# Altium schematic symbol library DIODOS.SchLib: 41 symbols (part 2 of 3)
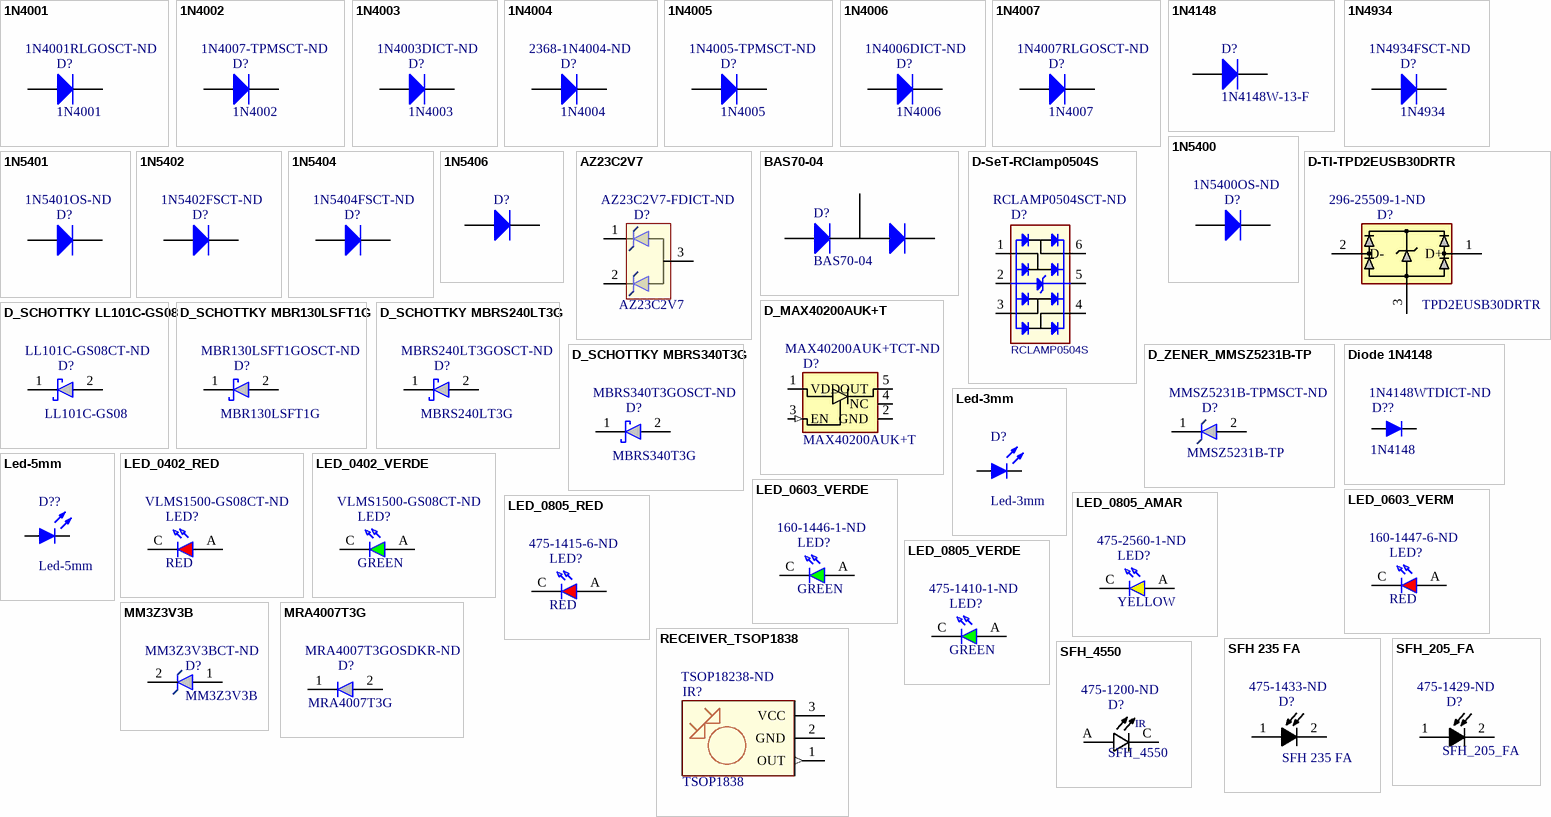
[diagram p2: symbols 1N4001 to SFH_4550]

## D_SCHOTTKY LL101C-GS08
designator D?, comment LL101C-GS08  Supplier Part Number 1: LL101C-GS08CT-ND
VISHAY   LL101C-GS08   DIODE, SCHOTTKY, 40V 0.03A, SOD80; Fabricante: DIODES INC; Average Rectified Current: 30mA; Peak Reverse Current: 200nA; Reverse Recovery Time: 1ns; Max Forward Surge Current (Ifsm): 2A; Power Dissipation: 400mW; Current Rating: 30A; Element Configuration: Single; Forward Voltage: 900mV; Footprint: SOD 80 (MINIMELF); MPN: LL101C-GS08; Value: LL101C-GS08; ComponentLink1Description: LOJA; ComponentLink1URL: https://www.digikey.com/product-detail/en/vishay-semiconductor-diodes-division/LL101C-GS08/LL101C-GS08CT-ND/3104465; ComponentLink2Description: DATASHEET; ComponentLink2URL: http://www.vishay.com/docs/85626/ll101a.pdf; Supplier 1: Digi-Key; Manufacturer: Vishay; Manufacturer Part Number: LL101C-GS08; RoHS: Yes; Category: Rectifier Diodes; Stock 1: 24777; Pricing 1: 1=0,37000, 10=0,30600, 25=0,25640, 100=0,12540, 250=0,12340, 500=0,10460, 1000=0,07268 (USD); Mount: Surface Mount; Number of Pins: 2; Min Operating Temperature: -65°C; Max Operating Temperature: 125°C; Max Repetitive Reverse Voltage (Vrrm): 40V; Peak Non-Repetitive Surge Current: 2A; Packaging: Tape and Reel; Package Quantity: 2500; Forward Current: 30mA; Max Reverse Voltage (DC): 40V; Current: 2A; Voltage: 40V; Max Reverse Leakage Current: 200nA; Max Surge Current: 2A; Recovery Time: 1ns; Length: 3.7mm; Height: 1.6mm; Width: 1.6mm; Radiation Hardening: No; Lead Free: Lead Free; REACH SVHC: Unknown; ComponentLink3URL: https://datasheet.ciiva.com/23642/1734837-23642459.pdf?src-supplier=Newark; ComponentLink3Description: https://datasheet.ciiva.com/23642/1734837-23642459.pdf?src-supplier=Newark; ComponentLink4URL: https://datasheet.ciiva.com/5726/1734641-5726561.pdf?src-supplier=Farnell; ComponentLink4Description: https://datasheet.ciiva.com/5726/1734641-5726561.pdf?src-supplier=Farnell; ComponentLink5URL: https://datasheet.ciiva.com/4246/ll101a-4246222.pdf?src-supplier=Arrow; ComponentLink5Description: https://datasheet.ciiva.com/4246/ll101a-4246222.pdf?src-supplier=Arrow; ComponentLink6URL: https://datasheet.ciiva.com/16386/ll101a-16386169.pdf?src-supplier=Future+Electronics; ComponentLink6Description: https://datasheet.ciiva.com/16386/ll101a-16386169.pdf?src-supplier=Future+Electronics; ComponentLink7URL: https://datasheet.ciiva.com/13946/ll101a-13946748.pdf?src-supplier=Digi-Key; ComponentLink7Description: https://datasheet.ciiva.com/13946/ll101a-13946748.pdf?src-supplier=Digi-Key; ComponentLink8URL: https://datasheet.ciiva.com/13946/ll101a-13946749.pdf?src-supplier=Digi-Key; ComponentLink8Description: https://datasheet.ciiva.com/13946/ll101a-13946749.pdf?src-supplier=Digi-Key; ComponentLink9URL: https://datasheet.ciiva.com/25931/ll101a-25931901.pdf?src-supplier=Avnet+Europe; ComponentLink9Description: https://datasheet.ciiva.com/25931/ll101a-25931901.pdf?src-supplier=Avnet+Europe; ComponentLink10URL: https://datasheet.ciiva.com/8288/ll101a-8288574.pdf?src-supplier=Avnet; ComponentLink10Description: https://datasheet.ciiva.com/8288/ll101a-8288574.pdf?src-supplier=Avnet; ComponentLink11URL: https://datasheet.ciiva.com/13946/ll101a-13946750.pdf?src-supplier=Digi-Key; ComponentLink11Description: https://datasheet.ciiva.com/13946/ll101a-13946750.pdf?src-supplier=Digi-Key
footprint SOD80 (MINIMELF) (MELF Diode, 2-Leads, Body 3,50x1,50mm, IPC Medium Density)
pins: 1 C, 2 K2

## D_SCHOTTKY MBR130LSFT1G
designator D?, comment MBR130LSFT1G  Supplier Part Number 1: MBR130LSFT1GOSCT-ND
MBR130 Series 1 A 30 V Surface Mount Schottky Power Rectifier - SOD-123FL; Manufacturer: ON Semiconductor; Fabricante: ON SEMI; Forward Current: 1A; Peak Reverse Current: 1mA; Max Surge Current: 40A; Forward Voltage: 380mV; Max Repetitive Reverse Voltage (Vrrm): 30V; Element Configuration: Single; Polarity: Standard; Footprint: SOD-123FL; MPN: MBR130LSFT1G; Value: MBR130LSFT1G; ComponentLink1Description: LOJA; ComponentLink1URL: https://www.digikey.com/product-detail/en/on-semiconductor/MBR130LSFT1G/MBR130LSFT1GOSCT-ND/1477159; ComponentLink2Description: DATASHEET; ComponentLink2URL: https://www.onsemi.com/pub/Collateral/MBR130LSFT1-D.PDF; Supplier 1: Digi-Key; Manufacturer Part Number: MBR130LSFT1G; RoHS: Yes; Category: Schottky Diodes; Stock 1: 111209; Pricing 1: 1=0,44000, 10=0,32900, 25=0,28760, 100=0,15620, 250=0,15536, 500=0,12742, 1000=0,09453 (USD); Number of Pins: 2; Contact Plating: Tin,Matte; Min Operating Temperature: -55°C; Max Operating Temperature: 125°C; Package Quantity: 1; Packaging: Tape and Reel; Average Rectified Current: 1A; Max Reverse Leakage Current: 1mA; Peak Non-Repetitive Surge Current: 40A; Max Forward Surge Current (Ifsm): 40A; Voltage Rating (DC): 30V; Current Rating: 1A; Output Current: 1A; Max Reverse Voltage (DC): 30V; Length: 2.9mm; Height: 0.9mm; Width: 1.8mm; Radiation Hardening: No; REACH SVHC: No SVHC; Lead Free: Lead Free; Halogen Free: Halogen Free; ComponentLink3URL: https://datasheet.ciiva.com/915/mbr130lsft1-d-915716.pdf?src-supplier=Digi-Key; ComponentLink3Description: https://datasheet.ciiva.com/915/mbr130lsft1-d-915716.pdf?src-supplier=Digi-Key; ComponentLink4URL: https://datasheet.ciiva.com/22830/0900766b811a6555-22830535.pdf?src-supplier=RSComponents; ComponentLink4Description: https://datasheet.ciiva.com/22830/0900766b811a6555-22830535.pdf?src-supplier=RSComponents; ComponentLink5URL: https://datasheet.ciiva.com/915/mbr130lsft1-d-915718.pdf?src-supplier=Digi-Key; ComponentLink5Description: https://datasheet.ciiva.com/915/mbr130lsft1-d-915718.pdf?src-supplier=Digi-Key; ComponentLink6URL: https://datasheet.ciiva.com/16396/mbr130lsft1-d-16396042.pdf?src-supplier=Future+Electronics; ComponentLink6Description: https://datasheet.ciiva.com/16396/mbr130lsft1-d-16396042.pdf?src-supplier=Future+Electronics
footprint SOD-123FL (SODFL, 2-Leads, Body 1,65x3,60mm, IPC Medium Density)
pins: 1 C, 2 K2

## D_SCHOTTKY MBRS240LT3G
designator D?, comment MBRS240LT3G  Supplier Part Number 1: MBRS240LT3GOSCT-ND
Diode Schottky 40V 2A 2-Pin SMB T/R; Manufacturer: ON Semiconductor; Fabricante: ON SEMI; Peak Reverse Current: 2mA; Max Forward Surge Current (Ifsm): 25A; Element Configuration: Single; Forward Voltage: 430mV; Polarity: Standard; Footprint: DO-214AA(SMB); MPN: MBRS240LT3G; Value: MBRS240LT3G; ComponentLink1Description: LOJA; ComponentLink1URL: https://www.digikey.com/product-detail/en/on-semiconductor/MBRS240LT3G/MBRS240LT3GOSCT-ND/918005; ComponentLink2Description: DATASHEET; ComponentLink2URL: https://www.onsemi.com/pub/Collateral/MBRS240LT3-D.PDF; Supplier 1: Digi-Key; Manufacturer Part Number: MBRS240LT3G; RoHS: Yes; Category: Schottky Diodes; Stock 1: 24703; Pricing 1: 1=0,40000, 10=0,32400, 25=0,29640, 100=0,18600, 250=0,18396, 500=0,17226, 1000=0,11713 (USD); Case/Package: SMB; Number of Pins: 2; Contact Plating: Tin,Matte; Min Operating Temperature: -55°C; Max Operating Temperature: 125°C; Forward Current: 2A; Package Quantity: 1; Packaging: Tape and Reel; Average Rectified Current: 2A; Max Repetitive Reverse Voltage (Vrrm): 40V; Peak Non-Repetitive Surge Current: 25A; Max Reverse Voltage (DC): 40V; Max Surge Current: 25A; Max Reverse Leakage Current: 2mA; Voltage Rating (DC): 40V; Current Rating: 2A; Output Current: 2A; Length: 4.32mm; Height: 2.13mm; Width: 3.56mm; Radiation Hardening: No; Lead Free: Lead Free; Halogen Free: Halogen Free; REACH SVHC: No SVHC; ComponentLink3URL: https://datasheet.ciiva.com/34301/866138-34301617.pdf?src-supplier=Jameco; ComponentLink3Description: https://datasheet.ciiva.com/34301/866138-34301617.pdf?src-supplier=Jameco; ComponentLink4URL: https://datasheet.ciiva.com/25950/mbrs240lt3-d-25950261.pdf?src-supplier=Avnet+Europe; ComponentLink4Description: https://datasheet.ciiva.com/25950/mbrs240lt3-d-25950261.pdf?src-supplier=Avnet+Europe; ComponentLink5URL: https://datasheet.ciiva.com/4714/mbrs240lt3-d-90409-4714391.pdf?src-supplier=Mouser; ComponentLink5Description: https://datasheet.ciiva.com/4714/mbrs240lt3-d-90409-4714391.pdf?src-supplier=Mouser; ComponentLink6URL: https://datasheet.ciiva.com/915/mbrs240lt3-d-915862.pdf?src-supplier=Digi-Key; ComponentLink6Description: https://datasheet.ciiva.com/915/mbrs240lt3-d-915862.pdf?src-supplier=Digi-Key; ComponentLink7URL: https://datasheet.ciiva.com/915/mbrs240lt3-d-915861.pdf?src-supplier=Digi-Key; ComponentLink7Description: https://datasheet.ciiva.com/915/mbrs240lt3-d-915861.pdf?src-supplier=Digi-Key; ComponentLink8URL: https://datasheet.ciiva.com/915/mbrs240lt3-d-915863.pdf?src-supplier=Digi-Key; ComponentLink8Description: https://datasheet.ciiva.com/915/mbrs240lt3-d-915863.pdf?src-supplier=Digi-Key; ComponentLink9URL: https://datasheet.ciiva.com/14558/70099506-14558439.pdf?src-supplier=Allied+Electronics; ComponentLink9Description: https://datasheet.ciiva.com/14558/70099506-14558439.pdf?src-supplier=Allied+Electronics; ComponentLink10URL: https://datasheet.ciiva.com/16202/mbrs240lt3-d-16202059.pdf?src-supplier=Future+Electronics; ComponentLink10Description: https://datasheet.ciiva.com/16202/mbrs240lt3-d-16202059.pdf?src-supplier=Future+Electronics
footprint SMB(DO-214AA) (CASE 403A-03)
pins: 1 C, 2 K2

## D_SCHOTTKY MBRS340T3G
designator D?, comment MBRS340T3G  Supplier Part Number 1: MBRS340T3GOSCT-ND
DIODE SCHOTTKY 40V 4A SMC; Manufacturer: ON Semiconductor; Fabricante: ON SEMI; Forward Voltage: 500mV; Peak Reverse Current: 2mA; Max Surge Current: 80A; Element Configuration: Single; Polarity: Standard; Current Rating: 3A; Footprint: DO-214AB(SMC); MPN: MBRS340T3G; Value: MBRS340T3G; ComponentLink1Description: LOJA; ComponentLink1URL: https://www.digikey.com/product-detail/en/on-semiconductor/MBRS340T3G/MBRS340T3GOSCT-ND/918009; ComponentLink2Description: DATASHEET; ComponentLink2URL: https://www.onsemi.com/pub/Collateral/MBRS340T3-D.PDF; Supplier 1: Digi-Key; Manufacturer Part Number: MBRS340T3G; RoHS: Yes; Category: Schottky Diodes; Stock 1: 118753; Pricing 1: 1=0,47000, 10=0,38300, 25=0,35000, 100=0,21980, 250=0,21732, 500=0,20350, 1000=0,13838 (USD); Case/Package: SMC; Number of Pins: 2; Contact Plating: Tin,Matte; Min Operating Temperature: -65°C; Max Operating Temperature: 150°C; Package Quantity: 1; Forward Current: 4A; Packaging: Tape and Reel; Average Rectified Current: 4A; Max Reverse Leakage Current: 2mA; Max Forward Surge Current (Ifsm): 80A; Max Repetitive Reverse Voltage (Vrrm): 40V; Peak Non-Repetitive Surge Current: 80A; Termination: SMD/SMT; Voltage Rating (DC): 40V; Output Current: 3A; Max Reverse Voltage (DC): 40V; Length: 0.279inch; Height: 0.095inch; Width: 0.24inch; Radiation Hardening: No; REACH SVHC: No SVHC; Lead Free: Lead Free; Halogen Free: Halogen Free; ComponentLink3URL: https://datasheet.ciiva.com/915/mbrs340t3-d-915987.pdf?src-supplier=Digi-Key; ComponentLink3Description: https://datasheet.ciiva.com/915/mbrs340t3-d-915987.pdf?src-supplier=Digi-Key; ComponentLink4URL: https://datasheet.ciiva.com/22659/1708282-22659074.pdf?src-supplier=Element14; ComponentLink4Description: https://datasheet.ciiva.com/22659/1708282-22659074.pdf?src-supplier=Element14; ComponentLink5URL: https://datasheet.ciiva.com/915/mbrs340t3-d-915988.pdf?src-supplier=Digi-Key; ComponentLink5Description: https://datasheet.ciiva.com/915/mbrs340t3-d-915988.pdf?src-supplier=Digi-Key; ComponentLink6URL: https://datasheet.ciiva.com/915/mbrs340t3-d-915989.pdf?src-supplier=Digi-Key; ComponentLink6Description: https://datasheet.ciiva.com/915/mbrs340t3-d-915989.pdf?src-supplier=Digi-Key; ComponentLink7URL: https://datasheet.ciiva.com/5763/mbrs340t3-d-5763030.pdf?src-supplier=Farnell; ComponentLink7Description: https://datasheet.ciiva.com/5763/mbrs340t3-d-5763030.pdf?src-supplier=Farnell; ComponentLink8URL: https://datasheet.ciiva.com/8299/mbrs340t3-d-8299862.pdf?src-supplier=Avnet; ComponentLink8Description: https://datasheet.ciiva.com/8299/mbrs340t3-d-8299862.pdf?src-supplier=Avnet; ComponentLink9URL: https://datasheet.ciiva.com/8294/mbrs340t3-d-8294983.pdf?src-supplier=Avnet; ComponentLink9Description: https://datasheet.ciiva.com/8294/mbrs340t3-d-8294983.pdf?src-supplier=Avnet; ComponentLink10URL: https://datasheet.ciiva.com/16475/mbrs340t3-d-16475159.pdf?src-supplier=Avnet+Asia; ComponentLink10Description: https://datasheet.ciiva.com/16475/mbrs340t3-d-16475159.pdf?src-supplier=Avnet+Asia; ComponentLink11URL: https://datasheet.ciiva.com/7962/mbrs340t3-d-7962825.pdf?src-supplier=Element14; ComponentLink11Description: https://datasheet.ciiva.com/7962/mbrs340t3-d-7962825.pdf?src-supplier=Element14; ComponentLink12URL: https://datasheet.ciiva.com/7962/mbrs340t3-d-7962826.pdf?src-supplier=Element14; ComponentLink12Description: https://datasheet.ciiva.com/7962/mbrs340t3-d-7962826.pdf?src-supplier=Element14; ComponentLink13URL: https://datasheet.ciiva.com/25950/mbrs340t3-d-25950010.pdf?src-supplier=Avnet+Europe; ComponentLink13Description: https://datasheet.ciiva.com/25950/mbrs340t3-d-25950010.pdf?src-supplier=Avnet+Europe; ComponentLink14URL: https://datasheet.ciiva.com/7962/mbrs340t3-d-7962827.pdf?src-supplier=Element14; ComponentLink14Description: https://datasheet.ciiva.com/7962/mbrs340t3-d-7962827.pdf?src-supplier=Element14
footprint DO-214AB (CASE 403AC - SMC)
pins: 1 C, 2 A

## D_ZENER_MMSZ5231B-TP
designator D?, comment MMSZ5231B-TP  Supplier Part Number 1: MMSZ5231B-TPMSCT-ND
DIODE ZENER 5.1V 500MW SOD123; Manufacturer: MCC; Fabricante: MICRO COM; Element Configuration: Single; Tolerance: 5%; Forward Voltage: 900mV; Impedance: 17R; Max Reverse Leakage Current: 5uA; Test Current: 20mA; Footprint: SOD123; MPN: MMSZ5231B-TP; Value: MMSZ5231B-TP; ComponentLink1Description: LOJA; ComponentLink1URL: https://www.digikey.com/product-detail/en/micro-commercial-co/MMSZ5231B-TP/MMSZ5231B-TPMSCT-ND/1793361; ComponentLink2Description: DATASHEET; ComponentLink2URL: https://www.mccsemi.com/pdf/Products/MMSZ5221-MMSZ5267(SOD123)-J.pdf; Supplier 1: Digi-Key; Manufacturer Part Number: MMSZ5231B-TP; RoHS: Yes; Category: Zener Diodes; Stock 1: 119489; Pricing 1: 1=0,20000, 10=0,16100, 25=0,13520, 100=0,06600, 250=0,06496, 500=0,05506, 1000=0,03825 (USD); Mount: Surface Mount; Number of Pins: 2; Min Operating Temperature: -55°C; Max Operating Temperature: 150°C; Package Quantity: 1; Packaging: Tape and Reel; Zener Voltage: 5.1V; Max Power Dissipation: 500mW; Power Dissipation: 500mW; Voltage Tolerance: 5%; Working Voltage: 5.1V; Peak Reverse Current: 5uA; REACH SVHC: Unknown; Lead Free: Lead Free; ComponentLink3URL: https://datasheet.ciiva.com/890/mmsz5221-mmsz5259sod123-890304.pdf?src-supplier=Digi-Key; ComponentLink3Description: https://datasheet.ciiva.com/890/mmsz5221-mmsz5259sod123-890304.pdf?src-supplier=Digi-Key; ComponentLink4URL: https://datasheet.ciiva.com/23709/1684853-23709285.pdf?src-supplier=Newark; ComponentLink4Description: https://datasheet.ciiva.com/23709/1684853-23709285.pdf?src-supplier=Newark; ComponentLink5URL: https://datasheet.ciiva.com/890/mmsz5221-mmsz5259sod123-890305.pdf?src-supplier=Digi-Key; ComponentLink5Description: https://datasheet.ciiva.com/890/mmsz5221-mmsz5259sod123-890305.pdf?src-supplier=Digi-Key; ComponentLink6URL: https://datasheet.ciiva.com/17380/mmsz5221-mmsz5259sod123-17380597.pdf?src-supplier=Future+Electronics; ComponentLink6Description: https://datasheet.ciiva.com/17380/mmsz5221-mmsz5259sod123-17380597.pdf?src-supplier=Future+Electronics; ComponentLink7URL: https://datasheet.ciiva.com/890/mmsz5221-mmsz5259sod123-890303.pdf?src-supplier=Digi-Key; ComponentLink7Description: https://datasheet.ciiva.com/890/mmsz5221-mmsz5259sod123-890303.pdf?src-supplier=Digi-Key
footprint SOD123 (SOD123, Surface Mount)
pins: 1 C, 2 A

## Diode 1N4148
designator D??, comment 1N4148  Supplier Part Number 1: 1N4148WTDICT-ND
Diode Switching 100V 0.25A 2-Pin SOD-523 T/R; MPN: 1N4148W-TP; Manufacturer: Diodes; Manufacturer Part Number: 1N4148WT-7; Fabricante: Micro Commercial Co; Reverse Recovery Time: 4ns; Forward Voltage: 1.25V; Element Configuration: Single; Forward Current: 250mA; Peak Non-Repetitive Surge Current: 2A; Average Rectified Current: 125mA; Max Reverse Voltage (DC): 80V; Power Dissipation: 150mW; Peak Reverse Current: 1uA; Polarity: Standard; Capacitance: 2pF; Footprint: SOD-123; value: 1N4148; ComponentLink1Description: Datasheet; ComponentLink1URL: https://www.mccsemi.com/pdf/Products/1N4148W(SOD123).pdf; Supplier 1: Digi-Key; RoHS: Yes; Category: Rectifier Diodes; Stock 1: 918216; Pricing 1: 1=0,20000, 10=0,16300, 25=0,13640, 100=0,06670, 250=0,06560, 500=0,05560, 1000=0,03863 (USD); Mount: Surface Mount; Number of Pins: 2; Weight: 3.5E-05oz; Contact Plating: Tin,Matte; Min Operating Temperature: -65°C; Max Operating Temperature: 150°C; Packaging: Tape and Reel; Max Repetitive Reverse Voltage (Vrrm): 100V; Package Quantity: 3000; Current Rating: 125mA; Recovery Time: 4ns; Max Forward Surge Current (Ifsm): 2A; Max Surge Current: 2A; Voltage Rating (DC): 80V; Output Current: 125mA; Power Rating: 150mW; Length: 0.9mm; Height: 0.65mm; Width: 1.3mm; Radiation Hardening: No; Lead Free: Lead Free; REACH SVHC: No SVHC; ComponentLink2URL: https://datasheet.ciiva.com/1242/ds30396-1242291.pdf?src-supplier=Newark; ComponentLink2Description: https://datasheet.ciiva.com/1242/ds30396-1242291.pdf?src-supplier=Newark; ComponentLink3URL: https://datasheet.ciiva.com/15219/getdatasheetpartid-131097-15219551.pdf?src-supplier=Verical; ComponentLink3Description: https://datasheet.ciiva.com/15219/getdatasheetpartid-131097-15219551.pdf?src-supplier=Verical; ComponentLink4URL: https://datasheet.ciiva.com/8303/ds30396-8303206.pdf?src-supplier=Avnet; ComponentLink4Description: https://datasheet.ciiva.com/8303/ds30396-8303206.pdf?src-supplier=Avnet; ComponentLink5URL: https://datasheet.ciiva.com/17074/0900766b80e30c5c-17074475.pdf?src-supplier=Allied+Electronics; ComponentLink5Description: https://datasheet.ciiva.com/17074/0900766b80e30c5c-17074475.pdf?src-supplier=Allied+Electronics; ComponentLink6URL: https://datasheet.ciiva.com/912/ds30396-912140.pdf?src-supplier=Digi-Key; ComponentLink6Description: https://datasheet.ciiva.com/912/ds30396-912140.pdf?src-supplier=Digi-Key; ComponentLink7URL: https://datasheet.ciiva.com/1179/ds30396-1179357.pdf?src-supplier=Element14; ComponentLink7Description: https://datasheet.ciiva.com/1179/ds30396-1179357.pdf?src-supplier=Element14; ComponentLink8URL: https://datasheet.ciiva.com/912/ds30396-912139.pdf?src-supplier=Digi-Key; ComponentLink8Description: https://datasheet.ciiva.com/912/ds30396-912139.pdf?src-supplier=Digi-Key
footprint SOD-123FL (SODFL, 2-Leads, Body 1,65x3,60mm, IPC Medium Density)
footprint SOD80 (MINIMELF) (MELF Diode, 2-Leads, Body 3,50x1,50mm, IPC Medium Density)
pins: 1 K, 2 A

## Led-3mm
designator D?
Led 3mm,
footprint LED_3mm_GREEN_RA
footprint LED_3mm_ORANGE_RA
footprint LED_3mm_RED_RA
footprint LED_3mm_YELLOW_RA
footprint LED_3mm_RED_RA - 2
pins: 1 A, 2 K

## Led-5mm
designator D??
Led 5mm,
footprint LED-35mm (Typical RED GaAs LED; 2 Leads)
footprint LED_R/A_GREEN
footprint LED_R/A_orange
footprint LED_R/A_RED
footprint LED_R/A_YELLOW
pins: 1 A, 2 K

## LED_0402_RED
designator LED?, comment RED  Supplier Part Number 1: VLMS1500-GS08CT-ND
LED Uni-Color Red 639nm 2-Pin Chip 0402(1006Metric) T/R; MPN: 598-8110-107F; Manufacturer: Vishay; Manufacturer Part Number: VLMS1500-GS08; Fabricante: Dialight; Number of LEDs: 1; Viewing Angle: 130°; Forward Current: 30mA; Forward Voltage: 2V; Luminous Intensity: 54mcd; Power Rating: 75mW; Dominant Wavelength: 631nm; Test Current: 20mA; Lens Style: Rectangular,Square; Footprint: 0805; Value: RED; Supplier 1: Digi-Key; RoHS: Yes; Category: LEDs; Stock 1: 130532; Pricing 1: 1=0,48000, 10=0,34600, 100=0,15360, 500=0,10752, 1000=0,08832 (USD); Mount: Surface Mount; Case/Package: 0402; Number of Pins: 2; Color: Red; Case Code (Imperial): 0402; Case Code (Metric): 1005; Min Operating Temperature: -30°C; Max Operating Temperature: 85°C; Package Quantity: 1; Packaging: Tape and Reel; Illumination Color: Red; Wavelength: 631nm; Length: 1mm; Height: 0.35mm; Width: 0.5mm; Radiation Hardening: No; Lead Free: Lead Free; REACH SVHC: Unknown; ComponentLink1URL: https://datasheet.ciiva.com/13945/vlmo1500-13945367.pdf?src-supplier=Digi-Key; ComponentLink1Description: https://datasheet.ciiva.com/13945/vlmo1500-13945367.pdf?src-supplier=Digi-Key; ComponentLink2URL: https://datasheet.ciiva.com/13945/vlmo1500-13945368.pdf?src-supplier=Digi-Key; ComponentLink2Description: https://datasheet.ciiva.com/13945/vlmo1500-13945368.pdf?src-supplier=Digi-Key; ComponentLink3URL: https://datasheet.ciiva.com/13945/vlmo1500-13945369.pdf?src-supplier=Digi-Key; ComponentLink3Description: https://datasheet.ciiva.com/13945/vlmo1500-13945369.pdf?src-supplier=Digi-Key
footprint LED0402 - RED (LED SMD 0402 RED)
pins: A, C

## LED_0402_VERDE
designator LED?, comment GREEN  Supplier Part Number 1: VLMS1500-GS08CT-ND
LED Uni-Color Red 639nm 2-Pin Chip 0402(1006Metric) T/R; MPN: 598-8170-102F; Manufacturer: Vishay; Manufacturer Part Number: VLMS1500-GS08; Fabricante: Dialight; Number of LEDs: 1; Viewing Angle: 130°; Forward Current: 30mA; Forward Voltage: 2V; Luminous Intensity: 54mcd; Power Rating: 75mW; Dominant Wavelength: 631nm; Test Current: 20mA; Lens Style: Rectangular,Square; Footprint: 0805; Value: GREEN; Supplier 1: Digi-Key; RoHS: Yes; Category: LEDs; Stock 1: 130532; Pricing 1: 1=0,48000, 10=0,34600, 100=0,15360, 500=0,10752, 1000=0,08832 (USD); Mount: Surface Mount; Case/Package: 0402; Number of Pins: 2; Color: Red; Case Code (Imperial): 0402; Case Code (Metric): 1005; Min Operating Temperature: -30°C; Max Operating Temperature: 85°C; Package Quantity: 1; Packaging: Tape and Reel; Illumination Color: Red; Wavelength: 631nm; Length: 1mm; Height: 0.35mm; Width: 0.5mm; Radiation Hardening: No; Lead Free: Lead Free; REACH SVHC: Unknown; ComponentLink1URL: https://datasheet.ciiva.com/13945/vlmo1500-13945367.pdf?src-supplier=Digi-Key; ComponentLink1Description: https://datasheet.ciiva.com/13945/vlmo1500-13945367.pdf?src-supplier=Digi-Key; ComponentLink2URL: https://datasheet.ciiva.com/13945/vlmo1500-13945368.pdf?src-supplier=Digi-Key; ComponentLink2Description: https://datasheet.ciiva.com/13945/vlmo1500-13945368.pdf?src-supplier=Digi-Key; ComponentLink3URL: https://datasheet.ciiva.com/13945/vlmo1500-13945369.pdf?src-supplier=Digi-Key; ComponentLink3Description: https://datasheet.ciiva.com/13945/vlmo1500-13945369.pdf?src-supplier=Digi-Key
footprint LED0402 - VERDE (LED SMD 0402 VERDE)
pins: A, C

## LED_0603_VERDE
designator LED?, comment GREEN  Supplier Part Number 1: 160-1446-1-ND
LED Uni-Color Green 574nm 2-Pin Chip LED T/R; MPN: LTST-C191KGKT; Manufacturer: Vishay Lite-On; Fabricante: Lite-On Inc.; Lens Color: Colorless; Luminous Intensity: 35mcd; Viewing Angle: 130°; Forward Voltage: 2V; Dominant Wavelength: 571nm; Test Current: 20mA; Lens Transparency: Clear; Lens Style: Rectangular,Colorless; Forward Current: 30mA; Number of Elements: 1; Power Dissipation: 75mW; Reverse Voltage: 5V; Footprint: SMD 0603; Value: GREEN; ComponentLink1Description: LOJA; ComponentLink1URL: https://www.digikey.com/product-detail/en/lite-on-inc/LTST-C191KGKT/160-1446-1-ND/386834; ComponentLink2Description: DATASHEET; ComponentLink2URL: http://optoelectronics.liteon.com/upload/download/DS22-2000-228/LTST-C191KGKT.PDF; Supplier 1: Digi-Key; Manufacturer Part Number: LTST-C191KGKT; RoHS: Yes; Category: LEDs; Stock 1: 801418; Pricing 1: 1=0,26000, 10=0,19200, 100=0,09090, 500=0,06060, 1000=0,04747, 2500=0,04646 (USD); Mount: Surface Mount; Case/Package: 0603; Number of Pins: 2; Color: Green; Case Code (Metric): 1608; Case Code (Imperial): 0603; Min Operating Temperature: -55°C; Max Operating Temperature: 85°C; Packaging: Tape and Reel; Package Quantity: 1; Wavelength: 574nm; Illumination Color: Green; Number of LEDs: 1; Power Rating: 75mW; Max Power Dissipation: 75mW; Length: 1.6mm; Height: 0.55mm; Width: 0.8mm; Depth: 0.8mm; Radiation Hardening: No; Lead Free: Lead Free; ComponentLink3URL: https://datasheet.ciiva.com/2109/ltst-c191kgkt-2109973.pdf?src-supplier=Digi-Key; ComponentLink3Description: https://datasheet.ciiva.com/2109/ltst-c191kgkt-2109973.pdf?src-supplier=Digi-Key
footprint LED0603 - VERDE (LED SMD 00603 VERDE)
pins: A, C

## LED_0603_VERM
designator LED?, comment RED  Supplier Part Number 1: 160-1447-6-ND
On a Reel of 5000, 2.4 V Red LED 1608 (0603) SMD, Lite-On LTST-C191KRKT; Manufacturer: Vishay Lite-On; Fabricante: Lite-On Inc.; Lens Color: Colorless; Power Rating: 75mW; Luminous Intensity: 54mcd; Viewing Angle: 130°; Forward Voltage: 2V; Lens Style: Clear,Diffused,Colorless,Rectangular; Forward Current: 30mA; Dominant Wavelength: 631nm; Test Current: 20mA; Lens Transparency: Clear; Number of Elements: 1; Wavelength: 639nm; Reverse Voltage: 5V; Footprint: SMD 0603; MPN: LTST-C191KRKT; Value: RED; ComponentLink1Description: LOJA; ComponentLink1URL: https://www.digikey.com/product-detail/en/lite-on-inc/LTST-C191KRKT/160-1447-1-ND/386836; ComponentLink2Description: DATASHEET; ComponentLink2URL: http://optoelectronics.liteon.com/upload/download/DS22-2000-228/LTST-C191KGKT.PDF; Supplier 1: Digi-Key; Manufacturer Part Number: LTST-C191KRKT; RoHS: Yes; Category: LEDs; Stock 1: 229900; Pricing 1: 1=0,26000, 10=0,19200, 100=0,09090, 500=0,06060, 1000=0,04747, 2500=0,04646 (USD); Mount: Surface Mount; Case/Package: 0603; Number of Pins: 2; Color: Red; Case Code (Metric): 1608; Case Code (Imperial): 0603; Min Operating Temperature: -55°C; Max Operating Temperature: 85°C; Packaging: Tape and Reel; Package Quantity: 1; Illumination Color: Red; Power Dissipation: 75mW; Number of LEDs: 1; Voltage: 2V; Length: 1.6mm; Height: 0.55mm; Width: 0.8mm; Depth: 0.8mm; Radiation Hardening: No; Lead Free: Lead Free; ComponentLink3URL: https://datasheet.ciiva.com/11773/0900766b80dc02b2-11773601.pdf?src-supplier=RSComponents; ComponentLink3Description: https://datasheet.ciiva.com/11773/0900766b80dc02b2-11773601.pdf?src-supplier=RSComponents; ComponentLink4URL: https://datasheet.ciiva.com/16212/ltst-c191krkt-16212419.pdf?src-supplier=Future+Electronics; ComponentLink4Description: https://datasheet.ciiva.com/16212/ltst-c191krkt-16212419.pdf?src-supplier=Future+Electronics; ComponentLink5URL: https://datasheet.ciiva.com/15117/getdatasheetpartid-141922-15117737.pdf?src-supplier=Verical; ComponentLink5Description: https://datasheet.ciiva.com/15117/getdatasheetpartid-141922-15117737.pdf?src-supplier=Verical; ComponentLink6URL: https://datasheet.ciiva.com/12400/lite-on-ltst-c191krkt-190135-12400910.pdf?src-supplier=Mouser; ComponentLink6Description: https://datasheet.ciiva.com/12400/lite-on-ltst-c191krkt-190135-12400910.pdf?src-supplier=Mouser; ComponentLink7URL: https://datasheet.ciiva.com/2109/s-110-ltst-c191krkt-2109970.pdf?src-supplier=Digi-Key; ComponentLink7Description: https://datasheet.ciiva.com/2109/s-110-ltst-c191krkt-2109970.pdf?src-supplier=Digi-Key; ComponentLink8URL: https://datasheet.ciiva.com/2109/s-110-ltst-c191krkt-2109971.pdf?src-supplier=Digi-Key; ComponentLink8Description: https://datasheet.ciiva.com/2109/s-110-ltst-c191krkt-2109971.pdf?src-supplier=Digi-Key; ComponentLink9URL: https://datasheet.ciiva.com/2109/s-110-ltst-c191krkt-2109972.pdf?src-supplier=Digi-Key; ComponentLink9Description: https://datasheet.ciiva.com/2109/s-110-ltst-c191krkt-2109972.pdf?src-supplier=Digi-Key
footprint LED0603 - RED (LED SMD 00603 RED)
pins: A, C

## LED_0805_AMAR
designator LED?, comment YELLOW  Supplier Part Number 1: 475-2560-1-ND
LED Uni-Color Yellow 591nm 2-Pin Chip 0805(2012Metric) T/R; MPN: 598-8140-107F; Manufacturer: Osram Opto; Manufacturer Part Number: LYR976-PS-36; Fabricante: Dialight; Lens Color: White; Luminous Flux: 0.735lm; Number of Elements: 1; Reverse Voltage: 12V; Forward Current: 25mA; Forward Voltage: 2.5V; Lens Style: Flat,Diffused,Colorless,Rectangular; Luminous Intensity: 280mcd; Viewing Angle: 160°; Test Current: 20mA; Dominant Wavelength: 588nm; Power Dissipation: 65mW; Lens Transparency: Diffused; Lens Size: 1.25mm; Footprint: 0805; Value: YELLOW; Supplier 1: Digi-Key; RoHS: Yes; Category: LEDs; Stock 1: 112771; Pricing 1: 1=0,28000, 10=0,20100, 100=0,09540, 500=0,06360, 1000=0,04982 (USD); Mount: Surface Mount; Case/Package: 0805; Number of Pins: 2; Color: Yellow; Case Code (Imperial): 0805; Case Code (Metric): 2012; Min Operating Temperature: -30°C; Max Operating Temperature: 85°C; Packaging: Tape and Reel; Number of LEDs: 1; Illumination Color: Yellow; Package Quantity: 16000; Length: 2.1mm; Depth: 1.35mm; Width: 1.25mm; Radiation Hardening: No; ComponentLink1URL: https://datasheet.ciiva.com/26883/getdatasheetpartid-623478-26883141.pdf?src-supplier=Verical; ComponentLink1Description: https://datasheet.ciiva.com/26883/getdatasheetpartid-623478-26883141.pdf?src-supplier=Verical; ComponentLink2URL: https://datasheet.ciiva.com/26937/getdatasheetpartid-569561-26937231.pdf?src-supplier=Verical; ComponentLink2Description: https://datasheet.ciiva.com/26937/getdatasheetpartid-569561-26937231.pdf?src-supplier=Verical
footprint LEDSMD0805_AMAR (LED SMD 0805 AMARELO)
pins: A, C

## LED_0805_RED
designator LED?, comment RED  Supplier Part Number 1: 475-1415-6-ND
LED Uni-Color Red 660nm 2-Pin Chip LED T/R; MPN: 598-8110-107F; Manufacturer: Osram Opto; Manufacturer Part Number: LH R974-LP-1; Fabricante: Dialight; Forward Voltage: 2.6V; Lens Style: Diffused,Colorless; Luminous Intensity: 15mcd; Viewing Angle: 160°; Forward Current: 30mA; Dominant Wavelength: 645nm; Number of Elements: 1; Test Current: 20mA; Reverse Voltage: 5V; Footprint: 0805; Value: RED; Supplier 1: Digi-Key; RoHS: Yes; Category: LEDs; Stock 1: 164000; Pricing 1: 1=0,26000, 10=0,19100, 100=0,09050, 500=0,06036, 1000=0,04728 (USD); Mount: Surface Mount; Number of Pins: 2; Min Operating Temperature: -30°C; Max Operating Temperature: 85°C; Packaging: Tape and Reel; Length: 2.1mm; Depth: 1.35mm; Radiation Hardening: No; ComponentLink1URL: http://www.jameco.com/Jameco/Products/ProdDS/2085634.pdf?src-supplier=Jameco; ComponentLink1Description: http://www.jameco.com/Jameco/Products/ProdDS/2085634.pdf?src-supplier=Jameco; ComponentLink2URL: http://components.arrow.com/part/dataview/0323_01825492?src-supplier=Arrow+Europe; ComponentLink2Description: http://components.arrow.com/part/dataview/0323_01825492?src-supplier=Arrow+Europe; ComponentLink3URL: https://dammedia.osram.info/media/resource/hires/osram-dam-2493888/LH%20R974.pdf?src-supplier=Digi-Key; ComponentLink3Description: https://dammedia.osram.info/media/resource/hires/osram-dam-2493888/LH%20R974.pdf?src-supplier=Digi-Key; ComponentLink4URL: https://www.verical.com/server-webapp/html/getDatasheet?partID=258950&src-supplier=Verical; ComponentLink4Description: https://www.verical.com/server-webapp/html/getDatasheet?partID=258950&src-supplier=Verical; ComponentLink5URL: http://components.arrow.com/part/dataview/41971690S1077610N9133?src-supplier=Arrow; ComponentLink5Description: http://components.arrow.com/part/dataview/41971690S1077610N9133?src-supplier=Arrow; ComponentLink6URL: http://components.arrow.com/part/dataview/41971690S6190115N2128?src-supplier=Arrow; ComponentLink6Description: http://components.arrow.com/part/dataview/41971690S6190115N2128?src-supplier=Arrow; ComponentLink7URL: http://www.mouser.com/ds/2/311/LH%20R974%20-%20CHIPLED%200805-318659.pdf?src-supplier=Mouser; ComponentLink7Description: http://www.mouser.com/ds/2/311/LH%20R974%20-%20CHIPLED%200805-318659.pdf?src-supplier=Mouser
footprint LEDSMD0805 - RED (LED SMD0805 VERMELHO)
pins: A, C

## LED_0805_VERDE
designator LED?, comment GREEN  Supplier Part Number 1: 475-1410-1-ND
LED Uni-Color Green 572nm 2-Pin SMD T/R; MPN: 598-8170-102F; Manufacturer: Osram Opto; Manufacturer Part Number: LGR971-KN-1; Fabricante: Dialight; Lens Color: White; Test Current: 20mA; Dominant Wavelength: 570nm; Lens Transparency: Diffused; Luminous Flux: 0.1lm; Number of Elements: 1; Power Dissipation: 65mW; Forward Current: 25mA; Forward Voltage: 2.2V; Lens Style: Diffused,Flat,Colorless,Rectangular; Luminous Intensity: 45mcd; Viewing Angle: 160°; Reverse Voltage: 12V; Lens Size: 1.25mm; Footprint: 0805; Value: GREEN; Supplier 1: Digi-Key; RoHS: Yes; Category: LEDs; Stock 1: 355914; Pricing 1: 1=0,26000, 10=0,19100, 100=0,09050, 500=0,06036, 1000=0,04728 (USD); Mount: Surface Mount; Case/Package: 0805; Number of Pins: 2; Case Code (Metric): 2012; Color: Green; Case Code (Imperial): 0805; Min Operating Temperature: -30°C; Max Operating Temperature: 85°C; Packaging: Tape and Reel; Package Quantity: 1; Illumination Color: Green; Number of LEDs: 1; Length: 2.1mm; Height: 0.9mm; Depth: 1.35mm; Width: 1.25mm; Radiation Hardening: No; ComponentLink1URL: https://datasheet.ciiva.com/15198/getdatasheetpartid-233880-15198360.pdf?src-supplier=Verical; ComponentLink1Description: https://datasheet.ciiva.com/15198/getdatasheetpartid-233880-15198360.pdf?src-supplier=Verical; ComponentLink2URL: https://datasheet.ciiva.com/15198/getdatasheetpartid-462214-15198395.pdf?src-supplier=Verical; ComponentLink2Description: https://datasheet.ciiva.com/15198/getdatasheetpartid-462214-15198395.pdf?src-supplier=Verical; ComponentLink3URL: https://datasheet.ciiva.com/4688/g-r971-221296-4688589.pdf?src-supplier=Mouser; ComponentLink3Description: https://datasheet.ciiva.com/4688/g-r971-221296-4688589.pdf?src-supplier=Mouser; ComponentLink4URL: https://datasheet.ciiva.com/14918/00078860-0-14918605.pdf?src-supplier=Digi-Key; ComponentLink4Description: https://datasheet.ciiva.com/14918/00078860-0-14918605.pdf?src-supplier=Digi-Key; ComponentLink5URL: https://datasheet.ciiva.com/14918/00078860-0-14918604.pdf?src-supplier=Digi-Key; ComponentLink5Description: https://datasheet.ciiva.com/14918/00078860-0-14918604.pdf?src-supplier=Digi-Key; ComponentLink6URL: https://datasheet.ciiva.com/14918/00078860-0-14918606.pdf?src-supplier=Digi-Key; ComponentLink6Description: https://datasheet.ciiva.com/14918/00078860-0-14918606.pdf?src-supplier=Digi-Key
footprint LEDSMD0805 - VERDE (LED SMD0805 VERDE)
pins: A, C

## MM3Z3V3B
designator D?  Supplier Part Number 1: MM3Z3V3BCT-ND
Zener Single Diode, 3.3 V, 200 mW, SOD-323F, 2 %, 2, 150 C; Manufacturer: ON Semiconductor / Fairchild; FABRICANTE: ON Semiconductor; Forward Voltage: 1V; Tolerance: 2%; Max Power Dissipation: 200mW; Impedance: 89R; Zener Voltage: 3.3V; Max Reverse Leakage Current: 4.5uA; Test Current: 5mA; MPN: MM3Z3V3B; VALUE: MM3Z3V3B; FOOTPRINT: SOD-323F; ComponentLink1Description: LOJA; ComponentLink1URL: https://www.digikey.com/product-detail/en/on-semiconductor/MM3Z3V3B/MM3Z3V3BCT-ND/1626881; ComponentLink2Description: DATASHEET; ComponentLink2URL: https://www.onsemi.com/pub/Collateral/MM3Z9V1B-D.pdf; Supplier 1: Digi-Key; Manufacturer Part Number: MM3Z3V3B; RoHS: Yes; Category: Zener Diodes; Stock 1: 174890; Pricing 1: 1=0,20000, 10=0,16700, 25=0,13960, 100=0,06820, 250=0,06712, 500=0,05688, 1000=0,03953 (USD); Mount: Surface Mount; Number of Pins: 2; Weight: 0.0276g; Min Operating Temperature: -65°C; Max Operating Temperature: 150°C; Packaging: Tape and Reel; Package Quantity: 1; Voltage Tolerance: 2%; Power Dissipation: 200mW; Working Voltage: 3.3V; Peak Reverse Current: 4.5uA; Element Configuration: Single; Length: 1.3mm; Height: 1mm; Width: 1.7mm; Radiation Hardening: No; REACH SVHC: No SVHC; Lead Free: Lead Free; ComponentLink3URL: https://datasheet.ciiva.com/4733/mm3z3v3b-187166-4733819.pdf?src-supplier=Mouser; ComponentLink3Description: https://datasheet.ciiva.com/4733/mm3z3v3b-187166-4733819.pdf?src-supplier=Mouser; ComponentLink4URL: https://datasheet.ciiva.com/889/mm3z10vb-889113.pdf?src-supplier=Digi-Key; ComponentLink4Description: https://datasheet.ciiva.com/889/mm3z10vb-889113.pdf?src-supplier=Digi-Key; ComponentLink5URL: https://datasheet.ciiva.com/889/mm3z10vb-889114.pdf?src-supplier=Digi-Key; ComponentLink5Description: https://datasheet.ciiva.com/889/mm3z10vb-889114.pdf?src-supplier=Digi-Key; ComponentLink6URL: https://datasheet.ciiva.com/889/mm3z10vb-889115.pdf?src-supplier=Digi-Key; ComponentLink6Description: https://datasheet.ciiva.com/889/mm3z10vb-889115.pdf?src-supplier=Digi-Key; ComponentLink7URL: https://datasheet.ciiva.com/8347/mm3z9v1b-8347739.pdf?src-supplier=Avnet; ComponentLink7Description: https://datasheet.ciiva.com/8347/mm3z9v1b-8347739.pdf?src-supplier=Avnet; ComponentLink8URL: https://datasheet.ciiva.com/46425/1706525-46425916.pdf?src-supplier=Element14; ComponentLink8Description: https://datasheet.ciiva.com/46425/1706525-46425916.pdf?src-supplier=Element14
footprint SOD323-F (SOD323F, 2-Leads, Body 1,31x2,50mm, IPC Medium Density)
pins: 1 A, 2 C

## MRA4007T3G
designator D?  Supplier Part Number 1: MRA4007T3GOSDKR-ND
Diode; Rectifier; Standard; Vr 1000V; If 1A; Pkg SMA; Vf 1.04V; Tj +175degc; Cs 30A; Manufacturer: ON Semiconductor; Fabricante: ON SEMI; Forward Voltage: 2V; Peak Reverse Current: 10uA; Max Repetitive Reverse Voltage (Vrrm): 1kV; Element Configuration: Single; Footprint: DO-214AC; MPN: MRA4007T3G; Value: MRA4007T3G; Supplier 1: Digi-Key; Manufacturer Part Number: MRA4007T3G; RoHS: Yes; Category: Rectifier Diodes; Stock 1: 180000; Pricing 1: 1=0,28000, 10=0,22900, 25=0,19160, 100=0,09370, 250=0,09224, 500=0,07818, 1000=0,05432, 2500=0,05048 (USD); Case/Package: SMA; Number of Pins: 2; Contact Plating: Tin,Matte; Min Operating Temperature: -55°C; Max Operating Temperature: 175°C; Package Quantity: 1; Max Surge Current: 30A; Forward Current: 1A; Packaging: Tape and Reel; Average Rectified Current: 1A; Max Forward Surge Current (Ifsm): 30A; Peak Non-Repetitive Surge Current: 30A; Polarity: Standard; Voltage Rating (DC): 1kV; Current Rating: 1A; Output Current: 1A; Max Reverse Voltage (DC): 1kV; Reverse Voltage: 1kV; Length: 4.32mm; Height: 2mm; Width: 2.6mm; Radiation Hardening: No; REACH SVHC: No SVHC; Lead Free: Lead Free; ComponentLink1URL: https://datasheet.ciiva.com/915/mra4003t3-d-915440.pdf?src-supplier=Digi-Key; ComponentLink1Description: https://datasheet.ciiva.com/915/mra4003t3-d-915440.pdf?src-supplier=Digi-Key; ComponentLink2URL: https://datasheet.ciiva.com/34303/2013551-34303843.pdf?src-supplier=Jameco; ComponentLink2Description: https://datasheet.ciiva.com/34303/2013551-34303843.pdf?src-supplier=Jameco; ComponentLink3URL: https://datasheet.ciiva.com/30479/0900766b8078eb75-30479272.pdf?src-supplier=RSComponents; ComponentLink3Description: https://datasheet.ciiva.com/30479/0900766b8078eb75-30479272.pdf?src-supplier=RSComponents; ComponentLink4URL: https://datasheet.ciiva.com/915/mra4003t3-d-915441.pdf?src-supplier=Digi-Key; ComponentLink4Description: https://datasheet.ciiva.com/915/mra4003t3-d-915441.pdf?src-supplier=Digi-Key; ComponentLink5URL: https://datasheet.ciiva.com/915/mra4003t3-d-915442.pdf?src-supplier=Digi-Key; ComponentLink5Description: https://datasheet.ciiva.com/915/mra4003t3-d-915442.pdf?src-supplier=Digi-Key; ComponentLink6URL: https://datasheet.ciiva.com/16474/mra4003t3-d-16474325.pdf?src-supplier=Avnet+Asia; ComponentLink6Description: https://datasheet.ciiva.com/16474/mra4003t3-d-16474325.pdf?src-supplier=Avnet+Asia; ComponentLink7URL: https://datasheet.ciiva.com/22749/1747991-22749573.pdf?src-supplier=Element14; ComponentLink7Description: https://datasheet.ciiva.com/22749/1747991-22749573.pdf?src-supplier=Element14; ComponentLink8URL: https://datasheet.ciiva.com/26231/mra4003t3-d-26231910.pdf?src-supplier=Avnet+Europe; ComponentLink8Description: https://datasheet.ciiva.com/26231/mra4003t3-d-26231910.pdf?src-supplier=Avnet+Europe; ComponentLink9URL: https://datasheet.ciiva.com/16427/mra4003t3-d-16427575.pdf?src-supplier=Future+Electronics; ComponentLink9Description: https://datasheet.ciiva.com/16427/mra4003t3-d-16427575.pdf?src-supplier=Future+Electronics; ComponentLink10URL: https://datasheet.ciiva.com/7962/mra4003t3-d-7962842.pdf?src-supplier=Element14; ComponentLink10Description: https://datasheet.ciiva.com/7962/mra4003t3-d-7962842.pdf?src-supplier=Element14; ComponentLink11URL: https://datasheet.ciiva.com/7962/mra4003t3-d-7962843.pdf?src-supplier=Element14; ComponentLink11Description: https://datasheet.ciiva.com/7962/mra4003t3-d-7962843.pdf?src-supplier=Element14; ComponentLink12URL: https://datasheet.ciiva.com/8294/mra4003t3-d-8294956.pdf?src-supplier=Avnet; ComponentLink12Description: https://datasheet.ciiva.com/8294/mra4003t3-d-8294956.pdf?src-supplier=Avnet; ComponentLink13URL: https://datasheet.ciiva.com/8299/mra4003t3-d-8299900.pdf?src-supplier=Avnet; ComponentLink13Description: https://datasheet.ciiva.com/8299/mra4003t3-d-8299900.pdf?src-supplier=Avnet
footprint DO-214AC (CASE 403D - SMA)
pins: 1 C, 2 A

## RECEIVER_TSOP1838
designator IR?, comment TSOP1838  Supplier Part Number 1: TSOP18238-ND
IR Remote Receiver 38KHz 40m 3-Pin; Manufacturer Part Number: TSOP18238; Fabricante: Vishay; Power Dissipation: 30mW; Operating Supply Voltage: 6V; Nominal Supply Current: 3mA; MPN: TSOP1838; Footprint: TSOP1838; Value: TSOP1838; ComponentLink1Description: DATASHEET; ComponentLink1URL: https://br.mouser.com/datasheet/2/427/introductionpartnumbers-537189.pdf; ComponentLink2Description: LOJA; ComponentLink2URL: https://br.mouser.com/ProductDetail/Vishay-Semiconductors/TSOP1838?qs=%2Fha2pyFadujrMPJyptlSsYiycu71agtKGvS0Fo8eexA%3D; Supplier 1: Digi-Key; Manufacturer: Vishay; RoHS: Yes; Stock 1: 1172; Pricing 1: 1=1,12000, 5=1,08000, 10=0,87800, 25=0,75600, 50=0,65480, 100=0,59400, 500=0,49950, 1000=0,44550, 5000=0,40500 (USD); Packaging: Bag; Lead Free: Lead Free; ComponentLink3URL: https://datasheet.ciiva.com/15272/tsop182x-15272354.pdf?src-supplier=Arrow+Europe; ComponentLink3Description: https://datasheet.ciiva.com/15272/tsop182x-15272354.pdf?src-supplier=Arrow+Europe; ComponentLink4URL: https://datasheet.ciiva.com/16502/tsop18238-16502011.pdf?src-supplier=Future+Electronics; ComponentLink4Description: https://datasheet.ciiva.com/16502/tsop18238-16502011.pdf?src-supplier=Future+Electronics
footprint TSOP1838 (IR Remote Receiver 38kHz 35m 3-Pin)
pins: 1 OUT (out), 2 GND (power), 3 VCC (power)

## SFH 235 FA
designator D?  Supplier Part Number 1: 475-1433-ND
Photodiodes PHOTODIODE; Fabricante: OSRAM Opto; Wavelength: 900nm; Rise Time: 20ns; Power Dissipation: 150mW; Dark Current: 30nA; Reverse Breakdown Voltage: 32V; Forward Voltage: 1.3V; Footprint: Radial Osram Opto; Value: SFH 235 FA; ComponentLink1Description: DATASHEET; ComponentLink1URL: https://dammedia.osram.info/media/resource/hires/osram-dam-5467112/SFH%20235%20FA_EN.pdf; ComponentLink2Description: LOJA; ComponentLink2URL: https://www.digikey.com/product-detail/en/osram-opto-semiconductors-inc/SFH-235-FA/475-1433-ND/1228075; MPN: SFH 235 FA; Supplier 1: Digi-Key; Manufacturer: Osram Opto; Manufacturer Part Number: SFH 235 FA; RoHS: Yes; Category: Photodiodes; Stock 1: 27979; Pricing 1: 1=1,27000, 10=1,03100, 100=0,63440, 500=0,53920, 1000=0,44405, 2500=0,42185, 5000=0,41233, 10000=0,40282, 25000=0,39648 (USD); Mount: Through Hole; Number of Pins: 2; Min Operating Temperature: -40°C; Max Operating Temperature: 100°C; Packaging: Bulk; Fall Time: 20ns; Radiation Hardening: No; ComponentLink3URL: https://datasheet.ciiva.com/1249/00049208-0-1249200.pdf?src-supplier=Avnet; ComponentLink3Description: https://datasheet.ciiva.com/1249/00049208-0-1249200.pdf?src-supplier=Avnet; ComponentLink4URL: https://datasheet.ciiva.com/15117/getdatasheetpartid-569958-15117159.pdf?src-supplier=Verical; ComponentLink4Description: https://datasheet.ciiva.com/15117/getdatasheetpartid-569958-15117159.pdf?src-supplier=Verical; ComponentLink5URL: https://datasheet.ciiva.com/17083/0900766b808b25c7-17083627.pdf?src-supplier=Allied+Electronics; ComponentLink5Description: https://datasheet.ciiva.com/17083/0900766b808b25c7-17083627.pdf?src-supplier=Allied+Electronics; ComponentLink6URL: https://datasheet.ciiva.com/4697/fh235fa-pb-free-2007-04-02-37921-4697692.pdf?src-supplier=Mouser; ComponentLink6Description: https://datasheet.ciiva.com/4697/fh235fa-pb-free-2007-04-02-37921-4697692.pdf?src-supplier=Mouser
footprint SFH 235 FA (Fotodiodo 900nm 20ns 130 ° Radial / Faixa espectral 740nm ~ 1120nm / Tempo de resposta 20ns / Ângulo de visão 130 °Fotodiodo 900nm 20ns 130 ° Radial / Faixa espectral 740nm ~ 1120nm / Tempo de resposta 20ns / Ângulo de visão 130 °)
pins: 1 A, 2 C

## SFH_205_FA
designator D?  Supplier Part Number 1: 475-1429-ND
PHOTODIODE PIN 950NM W/FLTR 5MM; Manufacturer Part Number: SFH205F; MF: OSRAM Opto; MP: SFH 205 FA; Rise Time: 20ns; Forward Voltage: 1.3V; Reverse Breakdown Voltage: 32V; Dark Current: 2nA; Power Dissipation: 150mW; Forward Current: 100mA; Viewing Angle: 120°; Package: Radial Osram Opto; Digi-Key_Part_Number: 475-1430-ND; Digi-Key_Purchase_URL: https://www.digikey.com/product-detail/en/osram-opto-semiconductors-inc/SFH-205-FA/475-1430-ND/1228072?utm_source=snapeda&utm_medium=aggregator&utm_campaign=symbol; SnapEDA_Link: https://www.snapeda.com/parts/SFH%20205%20FA/OSRAM%20Opto%20Semiconductors%20Inc./view-part/?ref=snap; Value: *; Supplier 1: Digi-Key; Manufacturer: Osram Opto; RoHS: Yes; Category: LEDs; Stock 1: 15202; Pricing 1: 1=1,19000, 10=0,96900, 100=0,59650, 500=0,50704, 1000=0,41756, 2500=0,39668, 5000=0,38774, 10000=0,37879, 25000=0,37283 (USD); Mount: Through Hole; Case/Package: Radial; Number of Pins: 2; Contact Plating: Tin,Matte; Min Operating Temperature: -40°C; Max Operating Temperature: 100°C; Packaging: Bulk; Wavelength: 950nm; Fall Time: 20ns; Package Quantity: 1000; Diode Type: PIN; Max Reverse Voltage (DC): 32V; Reverse Voltage (DC): 32V; Max Power Dissipation: 150mW; Response Time: 20ns; Length: 5.1mm; Height: 6.9mm; Width: 4.1mm; Radiation Hardening: No; Lead Free: Lead Free; ComponentLink1URL: https://datasheet.ciiva.com/1249/00049208-0-1249200.pdf?src-supplier=Avnet; ComponentLink1Description: https://datasheet.ciiva.com/1249/00049208-0-1249200.pdf?src-supplier=Avnet; ComponentLink2URL: https://datasheet.ciiva.com/14098/easfh205-e-14098561.pdf?src-supplier=Distrelec; ComponentLink2Description: https://datasheet.ciiva.com/14098/easfh205-e-14098561.pdf?src-supplier=Distrelec; ComponentLink3URL: https://datasheet.ciiva.com/25620/0900766b80d862f8-25620405.pdf?src-supplier=RSComponents; ComponentLink3Description: https://datasheet.ciiva.com/25620/0900766b80d862f8-25620405.pdf?src-supplier=RSComponents; ComponentLink4URL: https://datasheet.ciiva.com/4697/fh205f-pb-free-2007-04-03-6887-4697608.pdf?src-supplier=Mouser; ComponentLink4Description: https://datasheet.ciiva.com/4697/fh205f-pb-free-2007-04-03-6887-4697608.pdf?src-supplier=Mouser; ComponentLink5URL: https://datasheet.ciiva.com/25620/0900766b80028867-25620425.pdf?src-supplier=RSComponents; ComponentLink5Description: https://datasheet.ciiva.com/25620/0900766b80028867-25620425.pdf?src-supplier=RSComponents; ComponentLink6URL: https://datasheet.ciiva.com/15117/getdatasheetpartid-463758-15117150.pdf?src-supplier=Verical; ComponentLink6Description: https://datasheet.ciiva.com/15117/getdatasheetpartid-463758-15117150.pdf?src-supplier=Verical; ComponentLink7URL: https://datasheet.ciiva.com/29138/154043-da-01-ml-photodiode-pin-to-92-sfh205f-osr-de-en-29138805.pdf?src-supplier=Conrad; ComponentLink7Description: https://datasheet.ciiva.com/29138/154043-da-01-ml-photodiode-pin-to-92-sfh205f-osr-de-en-29138805.pdf?src-supplier=Conrad; ComponentLink8URL: https://datasheet.ciiva.com/2819/00101668-0-2819835.pdf?src-supplier=Digi-Key; ComponentLink8Description: https://datasheet.ciiva.com/2819/00101668-0-2819835.pdf?src-supplier=Digi-Key
footprint *XDCR_SFH_205_FA
pins: 1 A, 2 C